# Altium footprint library Vibrating_Motor.PcbLib: 1 footprints
Each footprint in its own frame and in the unit in brackets; x right, y up, seen from the top. Pads: shape width x height; smd on the part's side, far side on the other; paste and mask are expansions set on the pad; w line width, h text height; cw(c..) or ccw(c..) is an arc to the next point about the centre after c.
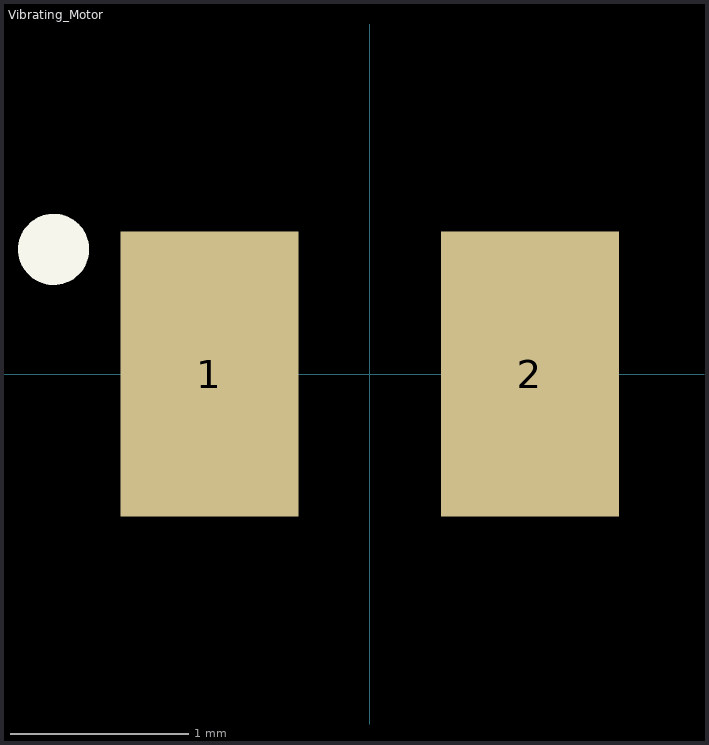
[diagram p0: the footprint, top view; thin cyan lines are the x and y axes]

## Vibrating_Motor [mm]
pads (2):
  rect 1x1.6 smd: 1(-0.9,0) 2(0.9,0)
Top Overlay:
  circle w0.2: c-1.775,0.7 r0.1